# Altium schematic symbol library WR-MPC3.SchLib: 235 symbols (part 5 of 5)
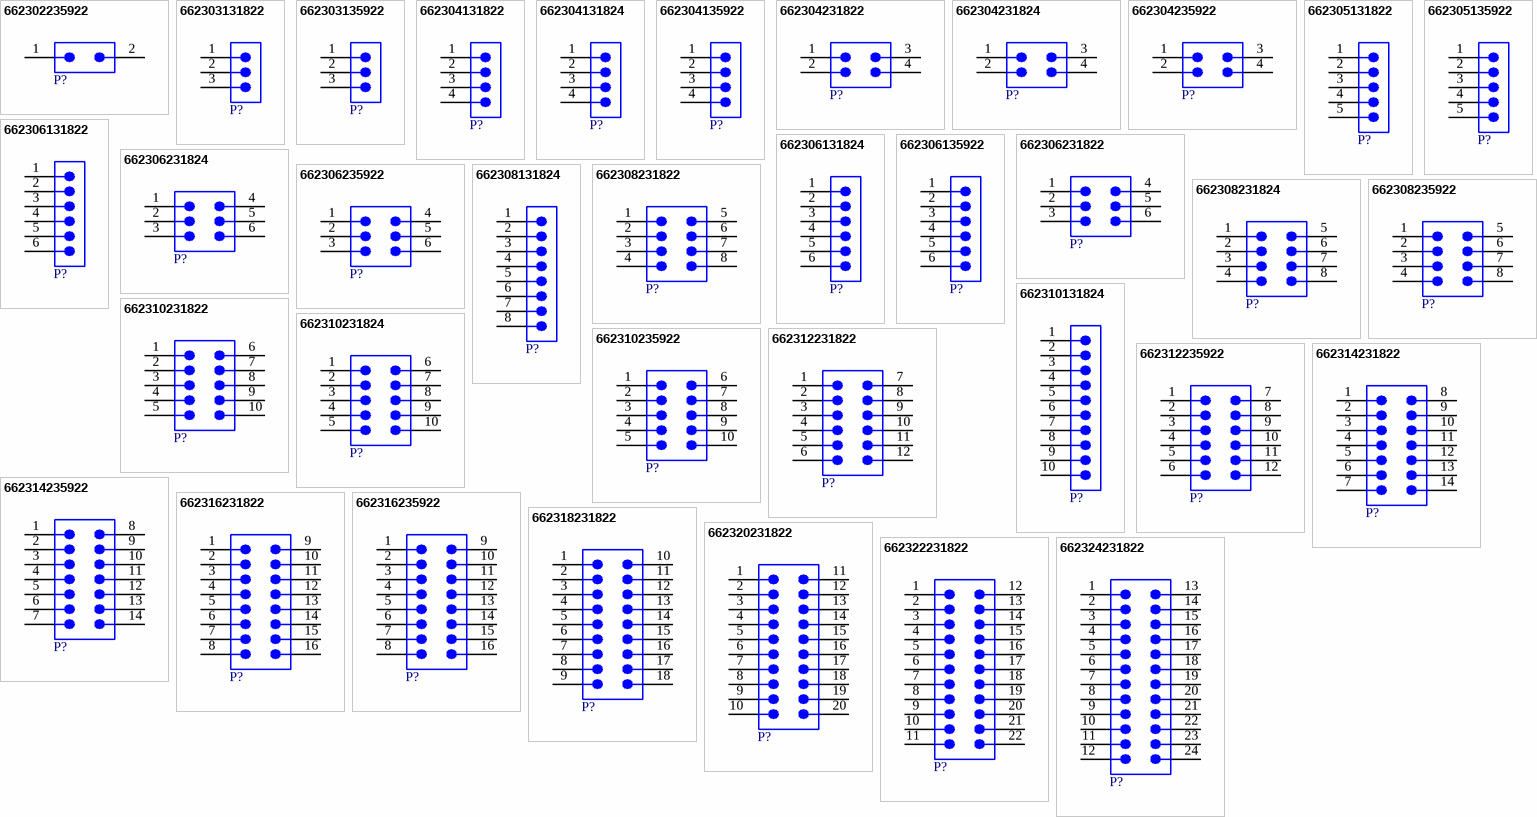
[diagram p9: symbols 662302235922 to 662324231822]

## 662310131824
designator P?  (value not drawn)
WR-MPC3 SMT Male Header Single Row Vertical with SMT Solder Tabs (Selective Gold), pitch 3mm, 10p; Manufacturer: Wurth Elektronik; Contact Resistance: 10mOhm; Insulation Resistance: >1000MOhm; Rated Current: 5A; Working Voltage: 250V (AC); Manufacturer Part Number: 662310131824; Category: Wire-to-Board Connectors; Match Code: WR-MPC3; ComponentLink1Description: Website Link; ComponentLink1URL: https://www.we-online.com/redexpert/article/662310131824?ad; ComponentLink2Description: Datasheet Link; ComponentLink2URL: https://www.we-online.com/redexpert/spec/662310131824?ad; Mount: Surface Mount; Operating Temperature Max: 105°C; Operating Temperature Min: -40°C; Packaging: Tape and Reel; Gender: Male; Number of Pins: 10; Number of Rows: 1; Orientation: Vertical; Pitch: 3mm
footprint 662310131824
pins: 1, 2, 3, 4, 5, 6, 7, 8, 9, 10

## 662310231822
designator P?  (value not drawn)
WR-MPC3 SMT Male Vertical Header with SMT Solder Tab, pitch 3mm, 10p; Manufacturer: Wurth Elektronik; Contact Resistance: 10mOhm; Insulation Resistance: >1000MOhm; Rated Current: 5A; Working Voltage: 250V (AC); Manufacturer Part Number: 662310231822; Category: Wire-to-Board Connectors; Match Code: WR-MPC3; ComponentLink1Description: Website Link; ComponentLink1URL: https://www.we-online.com/redexpert/article/662310231822?ad; ComponentLink2Description: Datasheet Link; ComponentLink2URL: https://www.we-online.com/redexpert/spec/662310231822?ad; Mount: Surface Mount; Operating Temperature Max: 105°C; Operating Temperature Min: -40°C; Packaging: Tape and Reel with Cap; Length: 18.7mm; Width: 11.4mm; Height: 11.4mm; Gender: Male; Number of Pins: 10; Number of Rows: 2; Orientation: Vertical; Pitch: 3mm
footprint 662310231822
pins: 1, 2, 3, 4, 5, 6, 7, 8, 9, 10

## 662310231824
designator P?  (value not drawn)
WR-MPC3 SMT Male Header Dual Row Vertical with SMT Solder Tabs (Selective Gold), pitch 3mm, 10p; Manufacturer: Wurth Elektronik; Contact Resistance: 10mOhm; Insulation Resistance: >1000MOhm; Rated Current: 5A; Working Voltage: 250V (AC); Manufacturer Part Number: 662310231824; Category: Wire-to-Board Connectors; Match Code: WR-MPC3; ComponentLink1Description: Website Link; ComponentLink1URL: https://www.we-online.com/redexpert/article/662310231824?ad; ComponentLink2Description: Datasheet Link; ComponentLink2URL: https://www.we-online.com/redexpert/spec/662310231824?ad; Mount: Surface Mount; Operating Temperature Max: 105°C; Operating Temperature Min: -40°C; Packaging: Tape and Reel; Gender: Male; Number of Pins: 10; Number of Rows: 2; Orientation: Vertical; Pitch: 3mm
footprint 662310231824
pins: 1, 2, 3, 4, 5, 6, 7, 8, 9, 10

## 662310235922
designator P?  (value not drawn)
WR-MPC3 SMT Male Vertical Header with THT Retention Clip, pitch 3mm, 10p; Manufacturer: Wurth Elektronik; Contact Resistance: 10mOhm; Insulation Resistance: >1000MOhm; Rated Current: 5A; Working Voltage: 250V (AC); Manufacturer Part Number: 662310235922; Category: Wire-to-Board Connectors; Match Code: WR-MPC3; ComponentLink1Description: Website Link; ComponentLink1URL: https://www.we-online.com/redexpert/article/662310235922?ad; ComponentLink2Description: Datasheet Link; ComponentLink2URL: https://www.we-online.com/redexpert/spec/662310235922?ad; Mount: Surface Mount; Operating Temperature Max: 105°C; Operating Temperature Min: -40°C; Packaging: Tape and Reel with Cap; Length: 18.7mm; Width: 11.4mm; Height: 9.9mm; Gender: Male; Number of Pins: 10; Number of Rows: 2; Orientation: Vertical; Pitch: 3mm
footprint 662310235922
pins: 1, 2, 3, 4, 5, 6, 7, 8, 9, 10

## 662312231822
designator P?  (value not drawn)
WR-MPC3 SMT Male Vertical Header with SMT Solder Tab, pitch 3mm, 12p; Manufacturer: Wurth Elektronik; Contact Resistance: 10mOhm; Insulation Resistance: >1000MOhm; Rated Current: 5A; Working Voltage: 250V (AC); Manufacturer Part Number: 662312231822; Category: Wire-to-Board Connectors; Match Code: WR-MPC3; ComponentLink1Description: Website Link; ComponentLink1URL: https://www.we-online.com/redexpert/article/662312231822?ad; ComponentLink2Description: Datasheet Link; ComponentLink2URL: https://www.we-online.com/redexpert/spec/662312231822?ad; Mount: Surface Mount; Operating Temperature Max: 105°C; Operating Temperature Min: -40°C; Packaging: Tape and Reel with Cap; Length: 21.7mm; Width: 11.4mm; Height: 11.4mm; Gender: Male; Number of Pins: 12; Number of Rows: 2; Orientation: Vertical; Pitch: 3mm
footprint 662312231822
pins: 1, 2, 3, 4, 5, 6, 7, 8, 9, 10, 11, 12

## 662312235922
designator P?  (value not drawn)
WR-MPC3 SMT Male Vertical Header with THT Retention Clip, pitch 3mm, 12p; Manufacturer: Wurth Elektronik; Contact Resistance: 10mOhm; Insulation Resistance: >1000MOhm; Rated Current: 5A; Working Voltage: 250V (AC); Manufacturer Part Number: 662312235922; Category: Wire-to-Board Connectors; Match Code: WR-MPC3; ComponentLink1Description: Website Link; ComponentLink1URL: https://www.we-online.com/redexpert/article/662312235922?ad; ComponentLink2Description: Datasheet Link; ComponentLink2URL: https://www.we-online.com/redexpert/spec/662312235922?ad; Mount: Surface Mount; Operating Temperature Max: 105°C; Operating Temperature Min: -40°C; Packaging: Tape and Reel with Cap; Length: 21.7mm; Width: 11.4mm; Height: 9.9mm; Gender: Male; Number of Pins: 12; Number of Rows: 2; Orientation: Vertical; Pitch: 3mm
footprint 662312235922
pins: 1, 2, 3, 4, 5, 6, 7, 8, 9, 10, 11, 12

## 662314231822
designator P?  (value not drawn)
WR-MPC3 SMT Male Vertical Header with SMT Solder Tab, pitch 3mm, 14p; Manufacturer: Wurth Elektronik; Contact Resistance: 10mOhm; Insulation Resistance: >1000MOhm; Rated Current: 5A; Working Voltage: 250V (AC); Manufacturer Part Number: 662314231822; Category: Wire-to-Board Connectors; Match Code: WR-MPC3; ComponentLink1Description: Website Link; ComponentLink1URL: https://www.we-online.com/redexpert/article/662314231822?ad; ComponentLink2Description: Datasheet Link; ComponentLink2URL: https://www.we-online.com/redexpert/spec/662314231822?ad; Mount: Surface Mount; Operating Temperature Max: 105°C; Operating Temperature Min: -40°C; Packaging: Tape and Reel with Cap; Length: 24.7mm; Width: 11.4mm; Height: 11.4mm; Gender: Male; Number of Pins: 14; Number of Rows: 2; Orientation: Vertical; Pitch: 3mm
footprint 662314231822
pins: 1, 2, 3, 4, 5, 6, 7, 8, 9, 10, 11, 12, 13, 14

## 662314235922
designator P?  (value not drawn)
WR-MPC3 SMT Male Vertical Header with THT Retention Clip, pitch 3mm, 14p; Manufacturer: Wurth Elektronik; Contact Resistance: 10mOhm; Insulation Resistance: >1000MOhm; Rated Current: 5A; Working Voltage: 250V (AC); Manufacturer Part Number: 662314235922; Category: Wire-to-Board Connectors; Match Code: WR-MPC3; ComponentLink1Description: Website Link; ComponentLink1URL: https://www.we-online.com/redexpert/article/662314235922?ad; ComponentLink2Description: Datasheet Link; ComponentLink2URL: https://www.we-online.com/redexpert/spec/662314235922?ad; Mount: Surface Mount; Operating Temperature Max: 105°C; Operating Temperature Min: -40°C; Packaging: Tape and Reel with Cap; Length: 24.7mm; Width: 11.4mm; Height: 9.9mm; Gender: Male; Number of Pins: 14; Number of Rows: 2; Orientation: Vertical; Pitch: 3mm
footprint 662314235922
pins: 1, 2, 3, 4, 5, 6, 7, 8, 9, 10, 11, 12, 13, 14

## 662316231822
designator P?  (value not drawn)
WR-MPC3 SMT Male Vertical Header with SMT Solder Tab, pitch 3mm, 16p; Manufacturer: Wurth Elektronik; Contact Resistance: 10mOhm; Insulation Resistance: >1000MOhm; Rated Current: 5A; Working Voltage: 250V (AC); Manufacturer Part Number: 662316231822; Category: Wire-to-Board Connectors; Match Code: WR-MPC3; ComponentLink1Description: Website Link; ComponentLink1URL: https://www.we-online.com/redexpert/article/662316231822?ad; ComponentLink2Description: Datasheet Link; ComponentLink2URL: https://www.we-online.com/redexpert/spec/662316231822?ad; Mount: Surface Mount; Operating Temperature Max: 105°C; Operating Temperature Min: -40°C; Packaging: Tape and Reel with Cap; Length: 27.7mm; Width: 11.4mm; Height: 11.4mm; Gender: Male; Number of Pins: 16; Number of Rows: 2; Orientation: Vertical; Pitch: 3mm
footprint 662316231822
pins: 1, 2, 3, 4, 5, 6, 7, 8, 9, 10, 11, 12, 13, 14, 15, 16

## 662316235922
designator P?  (value not drawn)
WR-MPC3 SMT Male Vertical Header with THT Retention Clip, pitch 3mm, 16p; Manufacturer: Wurth Elektronik; Contact Resistance: 10mOhm; Insulation Resistance: >1000MOhm; Rated Current: 5A; Working Voltage: 250V (AC); Manufacturer Part Number: 662316235922; Category: Wire-to-Board Connectors; Match Code: WR-MPC3; ComponentLink1Description: Website Link; ComponentLink1URL: https://www.we-online.com/redexpert/article/662316235922?ad; ComponentLink2Description: Datasheet Link; ComponentLink2URL: https://www.we-online.com/redexpert/spec/662316235922?ad; Mount: Surface Mount; Operating Temperature Max: 105°C; Operating Temperature Min: -40°C; Packaging: Tape and Reel with Cap; Length: 27.7mm; Width: 11.4mm; Height: 9.9mm; Gender: Male; Number of Pins: 16; Number of Rows: 2; Orientation: Vertical; Pitch: 3mm
footprint 662316235922
pins: 1, 2, 3, 4, 5, 6, 7, 8, 9, 10, 11, 12, 13, 14, 15, 16

## 662318231822
designator P?  (value not drawn)
WR-MPC3 SMT Male Vertical Header with SMT Solder Tab, pitch 3mm, 18p; Manufacturer: Wurth Elektronik; Contact Resistance: 10mOhm; Insulation Resistance: >1000MOhm; Rated Current: 5A; Working Voltage: 250V (AC); Manufacturer Part Number: 662318231822; Category: Wire-to-Board Connectors; Match Code: WR-MPC3; ComponentLink1Description: Website Link; ComponentLink1URL: https://www.we-online.com/redexpert/article/662318231822?ad; ComponentLink2Description: Datasheet Link; ComponentLink2URL: https://www.we-online.com/redexpert/spec/662318231822?ad; Mount: Surface Mount; Operating Temperature Max: 105°C; Operating Temperature Min: -40°C; Packaging: Tape and Reel with Cap; Length: 30.7mm; Width: 11.4mm; Height: 11.4mm; Gender: Male; Number of Pins: 18; Number of Rows: 2; Orientation: Vertical; Pitch: 3mm
footprint 662318231822
pins: 1, 2, 3, 4, 5, 6, 7, 8, 9, 10, 11, 12, 13, 14, 15, 16, 17, 18

## 662320231822
designator P?  (value not drawn)
WR-MPC3 SMT Male Vertical Header with SMT Solder Tab, pitch 3mm, 20p; Manufacturer: Wurth Elektronik; Contact Resistance: 10mOhm; Insulation Resistance: >1000MOhm; Rated Current: 5A; Working Voltage: 250V (AC); Manufacturer Part Number: 662320231822; Category: Wire-to-Board Connectors; Match Code: WR-MPC3; ComponentLink1Description: Website Link; ComponentLink1URL: https://www.we-online.com/redexpert/article/662320231822?ad; ComponentLink2Description: Datasheet Link; ComponentLink2URL: https://www.we-online.com/redexpert/spec/662320231822?ad; Mount: Surface Mount; Operating Temperature Max: 105°C; Operating Temperature Min: -40°C; Packaging: Tape and Reel with Cap; Length: 33.7mm; Width: 11.4mm; Height: 11.4mm; Gender: Male; Number of Pins: 20; Number of Rows: 2; Orientation: Vertical; Pitch: 3mm
footprint 662320231822
pins: 1, 2, 3, 4, 5, 6, 7, 8, 9, 10, 11, 12, 13, 14, 15, 16, 17, 18, 19, 20

## 662322231822
designator P?  (value not drawn)
WR-MPC3 SMT Male Vertical Header with SMT Solder Tab, pitch 3mm, 22p; Manufacturer: Wurth Elektronik; Contact Resistance: 10mOhm; Insulation Resistance: >1000MOhm; Rated Current: 5A; Working Voltage: 250V (AC); Manufacturer Part Number: 662322231822; Category: Wire-to-Board Connectors; Match Code: WR-MPC3; ComponentLink1Description: Website Link; ComponentLink1URL: https://www.we-online.com/redexpert/article/662322231822?ad; ComponentLink2Description: Datasheet Link; ComponentLink2URL: https://www.we-online.com/redexpert/spec/662322231822?ad; Mount: Surface Mount; Operating Temperature Max: 105°C; Operating Temperature Min: -40°C; Packaging: Tape and Reel with Cap; Length: 36.7mm; Width: 11.4mm; Height: 11.4mm; Gender: Male; Number of Pins: 22; Number of Rows: 2; Orientation: Vertical; Pitch: 3mm
footprint 662322231822
pins: 1, 2, 3, 4, 5, 6, 7, 8, 9, 10, 11, 12, 13, 14, 15, 16, 17, 18, 19, 20, 21, 22

## 662324231822
designator P?  (value not drawn)
WR-MPC3 SMT Male Vertical Header with SMT Solder Tab, pitch 3mm, 24p; Manufacturer: Wurth Elektronik; Contact Resistance: 10mOhm; Insulation Resistance: >1000MOhm; Rated Current: 5A; Working Voltage: 250V (AC); Manufacturer Part Number: 662324231822; Category: Wire-to-Board Connectors; Match Code: WR-MPC3; ComponentLink1Description: Website Link; ComponentLink1URL: https://www.we-online.com/redexpert/article/662324231822?ad; ComponentLink2Description: Datasheet Link; ComponentLink2URL: https://www.we-online.com/redexpert/spec/662324231822?ad; Mount: Surface Mount; Operating Temperature Max: 105°C; Operating Temperature Min: -40°C; Packaging: Tape and Reel with Cap; Length: 39.7mm; Width: 11.4mm; Height: 11.4mm; Gender: Male; Number of Pins: 24; Number of Rows: 2; Orientation: Vertical; Pitch: 3mm
footprint 662324231822
pins: 1, 2, 3, 4, 5, 6, 7, 8, 9, 10, 11, 12, 13, 14, 15, 16, 17, 18, 19, 20, 21, 22, 23, 24